# Altium schematic symbol library TPS565201.SchLib: 1 symbol
Pins are listed as number, name and electrical type; pins without a type are passive.

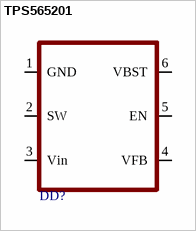
[diagram p0: symbol TPS565201]

## TPS565201
designator DD?
footprint Model Name (Footprint not found)
pins: 1 GND, 2 SW, 3 Vin, 4 VFB, 5 EN, 6 VBST